# Altium integrated library 电子电路集成库.IntLib: 19 symbols
Pins are listed as number, name and electrical type; pins without a type are passive.

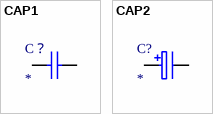
[diagram p0: symbols CAP1 to CAP2]

## CAP1
designator C？
footprint RAD0.15
footprint RAD0.3
pins: 1, 2

## CAP2
designator C?
footprint RB1
footprint RB2
footprint RB3
footprint RB4
footprint RB5
footprint RB6
pins: 1, 2


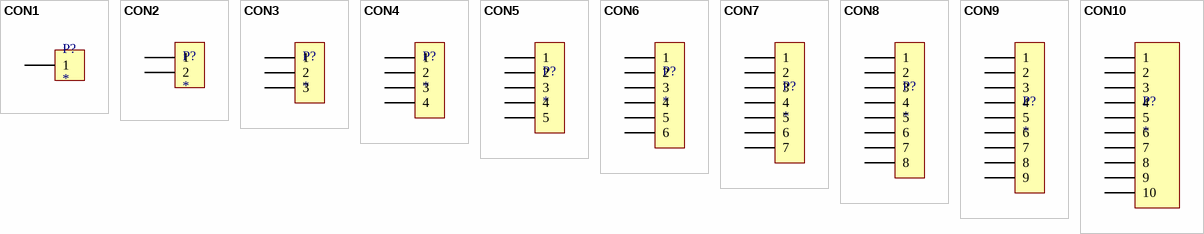
[diagram p1: symbols CON1 to CON10]

## CON1
designator P?
footprint SIP-1
pins: 1

## CON2
designator P?
footprint SIP-2
pins: 1, 2

## CON3
designator P?
footprint SIP-3
pins: 1, 2, 3

## CON4
designator P?
footprint SIP-4
pins: 1, 2, 3, 4

## CON5
designator P?
footprint SIP-5
pins: 1, 2, 3, 4, 5

## CON6
designator P?
footprint SIP-6
pins: 1, 2, 3, 4, 5, 6

## CON7
designator P?
footprint SIP-7
pins: 1, 2, 3, 4, 5, 6, 7

## CON8
designator P?
footprint SIP-8
pins: 1, 2, 3, 4, 5, 6, 7, 8

## CON9
designator P?
footprint SIP-9
pins: 1, 2, 3, 4, 5, 6, 7, 8, 9

## CON10
designator P?
footprint SIP-10
pins: 1, 2, 3, 4, 5, 6, 7, 8, 9, 10


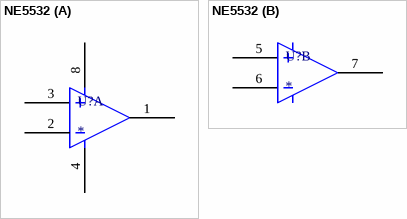
[diagram p2: symbol NE5532]

## NE5532
designator U?
footprint NE5532
part A pins: 1, 2, 3, 4, 8
part B pins: 5, 6, 7


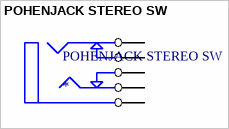
[diagram p3: symbol POHENJACK STEREO SW]

## POHENJACK STEREO SW
designator POHENJACK STEREO SW
footprint POHENJACK STEREO SW
pins: 1 A, 2 B, 3 C, 4 D, 5 E


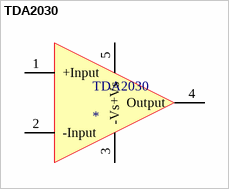
[diagram p4: symbol TDA2030]

## TDA2030
designator TDA2030
footprint TDA5
pins: 1 +Input, 2 -Input, 3 -Vs, 4 Output, 5 +Vs


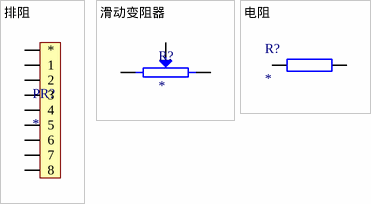
[diagram p5: symbols 排阻 to 电阻]

## 排阻
designator PR?
footprint pr1
pins: 1 *, 2 1, 3 2, 4 3, 5 4, 6 5, 7 6, 8 7, 9 8

## 滑动变阻器
designator R?
footprint RVR-A
footprint RVR-B
footprint RVR-C
pins: 1, 2 W, 3

## 电阻
designator R?
footprint AXIL0.4
footprint AXIL0.5
pins: 1, 2


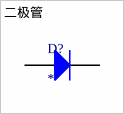
[diagram p6: symbol 二极管]

## 二极管
designator D?
footprint DIODE0.4
pins: 1 A, 2 K